# Altium schematic symbol library MC3486.SchLib: 1 symbol
Pins are listed as number, name and electrical type; pins without a type are passive.

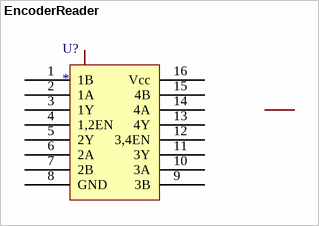
[diagram p0: symbol EncoderReader]

## EncoderReader
designator U?
footprint SOP127P600X175-16N (SOP, 16-Leads, Body 9,90x3,90mm, Pitch 1,27mm, IPC Medium Density)
pins: 1 1B, 2 1A, 3 1Y, 4 1,2EN, 5 2Y, 6 2A, 7 2B, 8 GND, 9 3B, 10 3A, 11 3Y, 12 3,4EN, 13 4Y, 14 4A, 15 4B, 16 Vcc